# Altium footprint library uni_Library.PcbLib: 8 footprints
Each footprint in its own frame and in the unit in brackets; x right, y up, seen from the top. Pads: shape width x height; smd on the part's side, far side on the other; paste and mask are expansions set on the pad; w line width, h text height; cw(c..) or ccw(c..) is an arc to the next point about the centre after c.
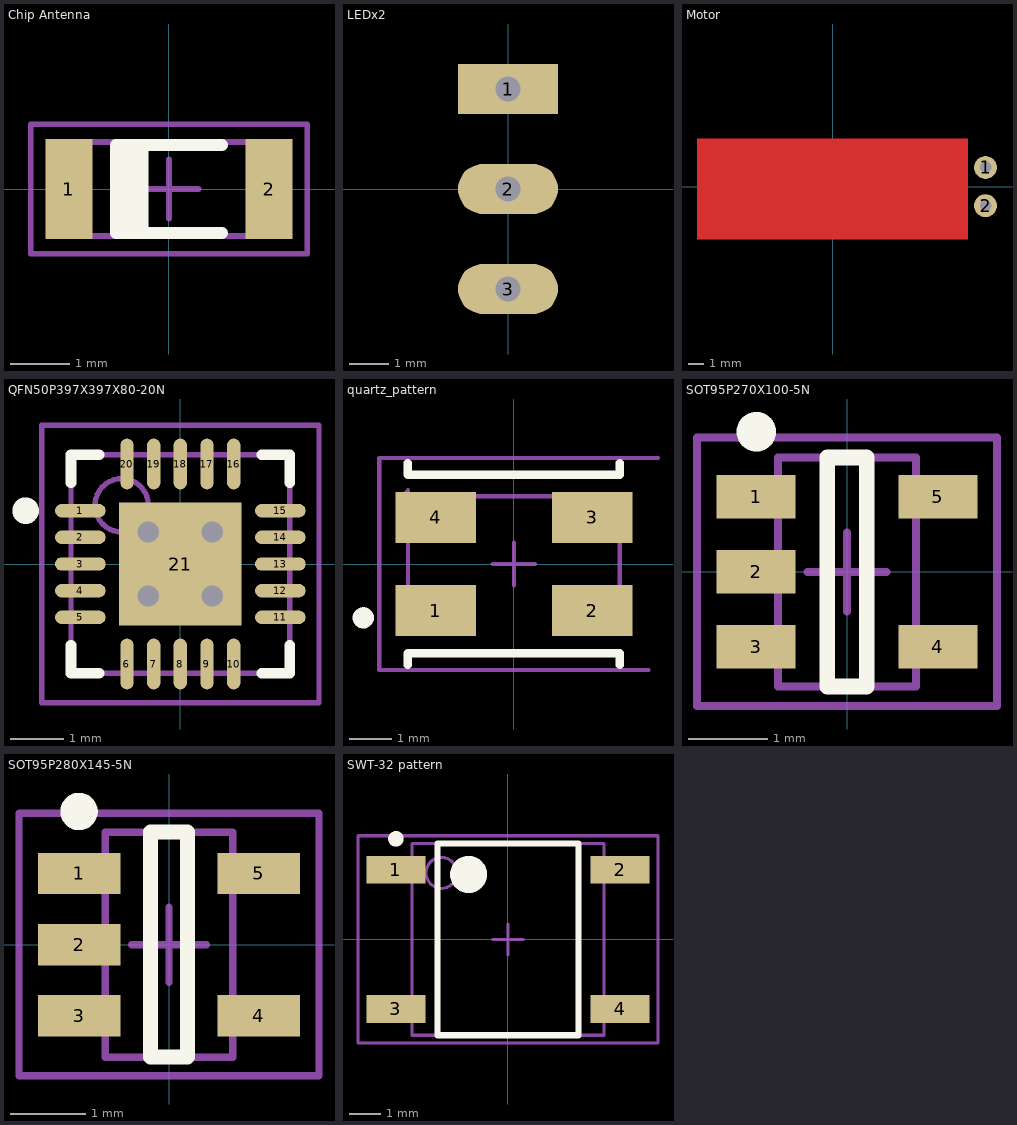
[diagram p0: the footprints below, top view; thin cyan lines are the x and y axes]

## Chip Antenna [mm] "Multilayer Chip Antenna 2-Leads, Body 3,2x1,6mm, IPC Medium Density"
height 0.9
pads (2):
  rect 0.8x1.7 smd: 1(-1.7,0) 2(1.7,0)
Top Overlay:
  rectangle: -0.9,-0.75 -0.35,0.75
  lines w0.2: 0.9,-0.75 -0.9,-0.75 -0.9,0.75 0.9,0.75
Mechanical 13:
  lines w0.1: -1.6,-0.8 1.6,-0.8 1.6,0.8 -1.6,0.8 -1.6,-0.8
Mechanical 15:
  lines w0.1: -0.5,0 0.5,0 ; 0,-0.5 0,0.5 ; -2.35,-1.1 2.35,-1.1 2.35,1.1 -2.35,1.1 -2.35,-1.1
3D body: height 0.9, standoff 0, extent -1.6,-0.8 1.6,0.8

## LEDx2 [mm]
pads (3):
  rect 2.54x1.27 hole 0.635: 1(0,2.54)
  oval 2.54x1.27 hole 0.635: 2(0,0) 3(0,-2.54)

## Motor [mil] "площадка под вибромотор"
pads (2):
  round 60 hole 30: 1(400,50) 2(400,-50)
Top Layer:
  rectangle: -354.33,-137.8 354.33,125

## QFN50P397X397X80-20N [mm] "QFN, 20-Leads, Body 4,1x4,1mm (max), Pitch 0,50mm, IPC Medium Density"
height 0.8
pads (21):
  oval 0.95x0.25 smd: 1(-1.875,1) 2(-1.875,0.5) 3(-1.875,0) 4(-1.875,-0.5) 5(-1.875,-1) 11(1.875,-1) 12(1.875,-0.5) 13(1.875,0) 14(1.875,0.5) 15(1.875,1)
  oval 0.25x0.95 smd: 6(-1,-1.875) 7(-0.5,-1.875) 8(0,-1.875) 9(0.5,-1.875) 10(1,-1.875) 16(1,1.875) 17(0.5,1.875) 18(0,1.875) 19(-0.5,1.875) 20(-1,1.875)
  rect 2.3x2.3 smd: 21(0,0)
via 0.6,-0.6 diameter 1 hole 0.4
via -0.6,-0.6 diameter 1 hole 0.4
via 0.6,0.6 diameter 1 hole 0.4
via -0.6,0.6 diameter 1 hole 0.4
Top Overlay:
  circle w0.25: c-2.9,1 r0.125
  lines w0.2: -2.05,-1.525 -2.05,-2.05 -1.525,-2.05 ; -2.05,1.525 -2.05,2.05 -1.525,2.05 ; 1.525,-2.05 2.05,-2.05 2.05,-1.525 ; 1.525,2.05 2.05,2.05 2.05,1.525
Mechanical 13:
  circle w0.1: c-1.1,1.1 r0.5
  lines w0.1: -2.05,-2.05 2.05,-2.05 2.05,2.05 -2.05,2.05 -2.05,-2.05
Mechanical 15:
  lines w0.1: -0.5,0 0.5,0 ; 0,-0.5 0,0.5 ; -2.6,-2.6 2.6,-2.6 2.6,2.6 -2.6,2.6 -2.6,-2.6
3D body: height 0.8, standoff 0.01, extent -2.05,-2.05 2.05,2.05

## quartz_pattern [mm] "LCC, 4-Pins, Body 5,0x3,2mm (max), Pitch 2,30mm, IPC Medium Density"
height 1
pads (4):
  rect 1.9x1.2 smd: 1(-1.85,-1.1) 2(1.85,-1.1) 3(1.85,1.1) 4(-1.85,1.1)
Top Overlay:
  circle w0.25: c-3.554,-1.27 r0.125
  lines w0.2: -2.5,-2.383 -2.5,-2.108 0.425,-2.108 ; -2.5,2.383 -2.5,2.246 -2.5,2.108 0.425,2.108 ; -0.425,-2.108 2.5,-2.108 2.5,-2.383 ; -0.425,2.108 2.5,2.108 2.5,2.383
Mechanical 13:
  lines w0.1: -2.5,-2.108 2.5,-2.108 ; -2.5,-1.6 -2.5,1.738 -2.638,1.6 2.5,1.6 2.5,-1.6
Mechanical 15:
  lines w0.1: -0.5,0 0.5,0 ; 0,-0.5 0,0.5 ; 3.175,-2.5 -3.175,-2.5 -3.175,2.5 3.4,2.5
3D body: height 1, standoff 0, extent -2.638,-1.6 2.5,1.738

## SOT95P270X100-5N [mm] "SOT23, 5-Leads, Body 2,9x2,8mm (max), Pitch 0,95mm, IPC Medium Density"
height 1
pads (5):
  rect 1x0.55 smd: 1(-1.15,0.95) 2(-1.15,0) 3(-1.15,-0.95) 4(1.15,-0.95) 5(1.15,0.95)
Top Overlay:
  circle w0.25: c-1.15,1.775 r0.125
  lines w0.2: -0.25,-1.45 0.25,-1.45 0.25,1.45 -0.25,1.45 -0.25,-1.45
Mechanical 13:
  lines w0.1: -0.875,-1.45 -0.875,1.45 0.875,1.45 0.875,-1.45 -0.875,-1.45
Mechanical 15:
  lines w0.1: -0.5,0 0.5,0 ; 0,-0.5 0,0.5 ; -1.9,-1.7 -1.9,1.7 1.9,1.7 1.9,-1.7 -1.9,-1.7
3D body: height 1, standoff 0.01, extent -0.875,-1.45 0.875,1.45

## SOT95P280X145-5N [mm] "SOT23, 5-Leads, Body 3,0x3,0mm (max), Pitch 0,95mm, IPC Medium Density"
height 1.45
pads (5):
  rect 1.1x0.55 smd: 1(-1.2,0.95) 2(-1.2,0) 3(-1.2,-0.95) 4(1.2,-0.95) 5(1.2,0.95)
Top Overlay:
  circle w0.25: c-1.2,1.775 r0.125
  lines w0.2: -0.25,-1.5 -0.25,1.5 0.25,1.5 0.25,-1.5 -0.25,-1.5
Mechanical 13:
  lines w0.1: -0.85,-1.5 0.85,-1.5 0.85,1.5 -0.85,1.5 -0.85,-1.5
Mechanical 15:
  lines w0.1: -0.5,0 0.5,0 ; 0,-0.5 0,0.5 ; -2,-1.75 2,-1.75 2,1.75 -2,1.75 -2,-1.75
3D body: height 1.45, standoff 0.01, extent -0.85,-1.5 0.85,1.5

## SWT-32 pattern [mm] "SOP, 4-Leads, Body 6,2x6,2mm (max), Pitch 4,50mm, IPC Medium Density"
height 3.2
pads (4):
  rect 1.9x0.9 smd: 1(-3.625,2.25) 2(3.625,2.25) 3(-3.625,-2.25) 4(3.625,-2.25)
Top Overlay:
  circle w0.25: c-3.625,3.25 r0.125
  circle w0.6: c-1.275,2.1 r0.3
  lines w0.2: -2.275,-3.1 -2.275,3.1 2.275,3.1 2.275,-3.1 -2.275,-3.1
Mechanical 13:
  circle w0.1: c-2.15,2.15 r0.5
  lines w0.1: -3.1,-3.1 -3.1,3.1 3.1,3.1 3.1,-3.1 -3.1,-3.1
Mechanical 15:
  lines w0.1: -0.5,0 0.5,0 ; 0,-0.5 0,0.5 ; -4.85,-3.35 -4.85,3.35 4.85,3.35 4.85,-3.35 -4.85,-3.35
3D body: height 3.2, standoff 0.2, extent -3.1,-3.1 3.1,3.1